# EAGLE library part CCM03-3009 (library Pygmy)
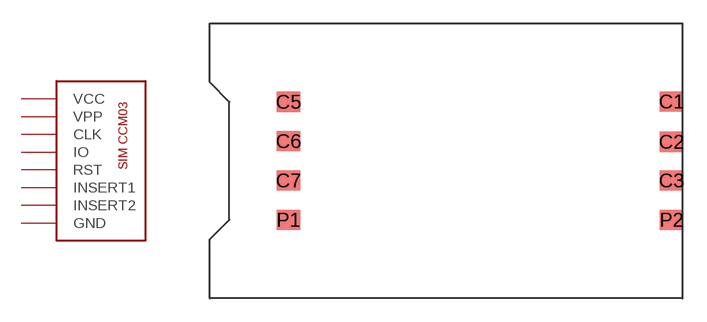
[diagram p18: symbol with the pads of CCM03-300X; footprint CCM03-300X]

Designator prefix -

## CCM03-3009  [CCM03-300X]
C1  VCC
C2  RST
C3  CLK
C5  GND
C6  VPP
C7  IO
P1  INSERT1
P2  INSERT2

## Footprint CCM03-300X (pad centres in mm)
smd 1.5 x 1.3: C1 24.7,5.1; C2 24.7,2.5; C3 24.7,0; C5 0,5.08; C6 0,2.54; C7 0,0; P1 0,-2.54; P2 24.705,-2.54